# EAGLE library part MC14043BDR2G (library ruark2)
IC LATCH R-S QUAD P/N 16-SOIC
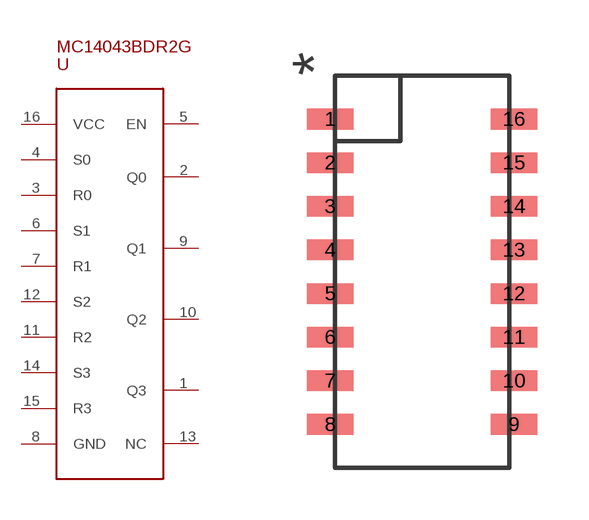
[diagram p54: symbol with the pads of SO16; footprint SO16]

Designator prefix U

## MC14043BDR2G (PARTNO: MC14043BDR2GOSCT-ND)  [SO16]
1  Q3
2  Q0
3  R0
4  S0
5  EN
6  S1
7  R1
8  GND
9  Q1
10  Q2
11  R2
12  S2
13  NC
14  S3
15  R3
16  VCC

## Footprint SO16 (pad centres in mm)
smd 1.35 x 0.6: 1 -2.215,5.62; 2 -2.215,4.35; 3 -2.215,3.08; 4 -2.215,1.81; 5 -2.215,0.54; 6 -2.215,-0.73; 7 -2.215,-2; 8 -2.215,-3.27; 9 3.135,-3.27; 10 3.135,-2; 11 3.135,-0.73; 12 3.135,0.54; 13 3.135,1.81; 14 3.135,3.08; 15 3.135,4.35; 16 3.135,5.62